# Altium schematic symbol library 4Pin_JST.SchLib: 1 symbol
Pins are listed as number, name and electrical type; pins without a type are passive.

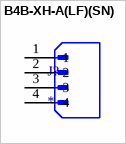
[diagram p0: symbol B4B-XH-A(LF)(SN)]

## B4B-XH-A(LF)(SN)
designator J?
Connector Header Through Hole 4 position 0.098 (2.50mm); MP: B4B-XH-A(LF)(SN); MF: JST Sales; SnapEDA_Link: https://www.snapeda.com/parts/B4B-XH-A(LF)(SN)/JST+Sales+America+Inc./view-part/?ref=snap; Package: None; Check_prices: https://www.snapeda.com/parts/B4B-XH-A(LF)(SN)/JST+Sales+America+Inc./view-part/?ref=eda; Purchase-URL: https://pricing.snapeda.com/search/part/B4B-XH-A(LF)(SN)/?ref=eda; Price: None; Value: *; Availability: In Stock
footprint JST_B4B-XH-A(LF)(SN)
pins: 1, 2, 3, 4